# EAGLE library part TD-103-T-A (library SAMTEC-Txx_By_element14_Batch_1)
CONN RECEPTACLE, 2.54MM, THT VERT, 6WAY
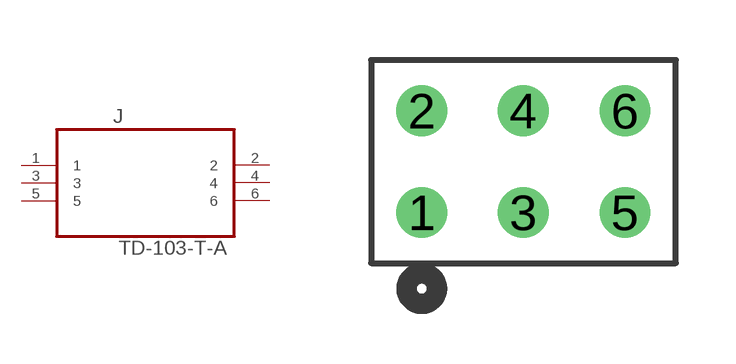
[diagram p1: symbol with the pads of SAMTEC_TD-103-T-A; footprint SAMTEC_TD-103-T-A]

Designator prefix J

## TD-103-T-A (MPN: TD-103-T-A; OC_FARNELL: 2020059; OC_NEWARK: 12P0231; PACKAGE: RECEPTACLE, 2.54MM, THT VERT,6WAY; SUPPLIER: SAMTEC)  [SAMTEC_TD-103-T-A]
1  1  pas
2  2  pas
3  3  pas
4  4  pas
5  5  pas
6  6  pas

## Footprint SAMTEC_TD-103-T-A (pad centres in mm)
drill 0.762: 1 -5.08,-2.54; 2 -5.08,0; 3 -2.54,-2.54; 4 -2.54,0; 5 0,-2.54; 6 0,0